# Altium integrated library Integrated_Library1.IntLib: 6 symbols
Pins are listed as number, name and electrical type; pins without a type are passive.

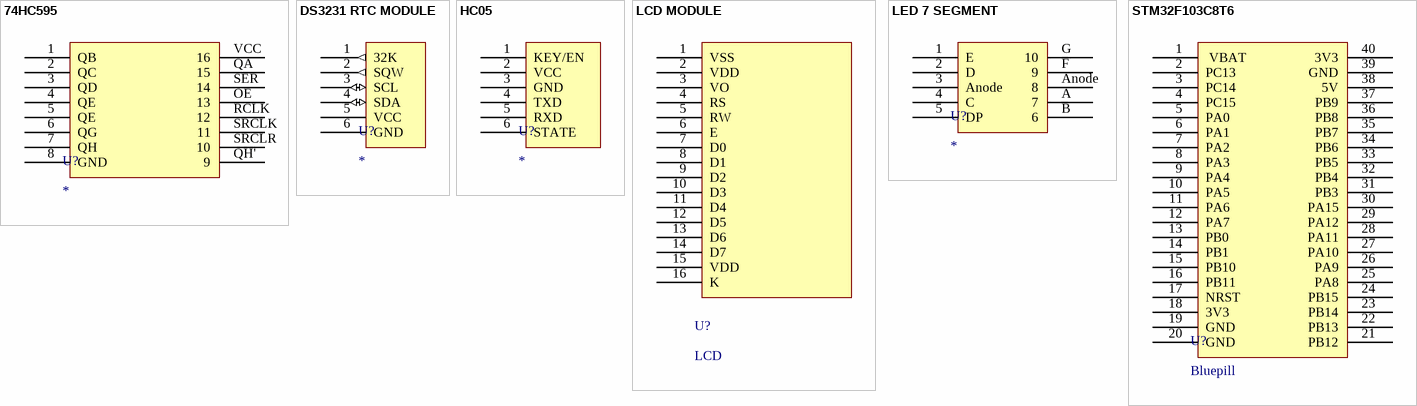
[diagram p0: symbols 74HC595 to STM32F103C8T6]

## 74HC595
designator U?
pins: 1 QB, 2 QC, 3 QD, 4 QE, 5 QE, 6 QG, 7 QH, 8 GND, OE 13, QA 15, QH' 9, RCLK 12, SER 14, SRCLK 11, SRCLR 10, VCC 16

## DS3231 RTC MODULE
designator U?
footprint DS32321 RTC MODULE
pins: 1 32K (out), 2 SQW (out), 3 SCL (io), 4 SDA (io), 5 VCC, 6 GND

## HC05
designator U?
footprint HC-05
pins: 1 KEY/EN, 2 VCC, 3 GND, 4 TXD, 5 RXD, 6 STATE

## LCD MODULE
designator U?, comment LCD
footprint LCD 2004
footprint LCD 1602
pins: 1 VSS, 2 VDD, 3 VO, 4 RS, 5 RW, 6 E, 7 D0, 8 D1, 9 D2, 10 D3, 11 D4, 12 D5, 13 D6, 14 D7, 15 VDD, 16 K

## LED 7 SEGMENT
designator U?
pins: 1 E, 2 D, 3 Anode, 4 C, 5 DP, A 7, Anode 8, B 6, F 9, G 10

## STM32F103C8T6
designator U?, comment Bluepill
footprint STM32F103C8T6 (Dimension 53.34x15.24 mm)
pins: 1  VBAT, 2 PC13, 3 PC14, 4 PC15, 5 PA0, 6 PA1, 7 PA2, 8 PA3, 9 PA4, 10 PA5, 11 PA6, 12 PA7, 13 PB0, 14 PB1, 15 PB10, 16 PB11, 17 NRST, 18 3V3, 19 GND, 20 GND, 21 PB12, 22 PB13, 23 PB14, 24 PB15, 25 PA8, 26 PA9, 27 PA10, 28 PA11, 29 PA12, 30 PA15, 31 PB3, 32 PB4, 33 PB5, 34 PB6, 35 PB7, 36 PB8, 37 PB9, 38 5V, 39 GND, 40 3V3